# Altium footprint library 705550015.PcbLib: 1 footprints
Each footprint in its own frame and in the unit in brackets; x right, y up, seen from the top. Pads: shape width x height; smd on the part's side, far side on the other; paste and mask are expansions set on the pad; w line width, h text height; cw(c..) or ccw(c..) is an arc to the next point about the centre after c.
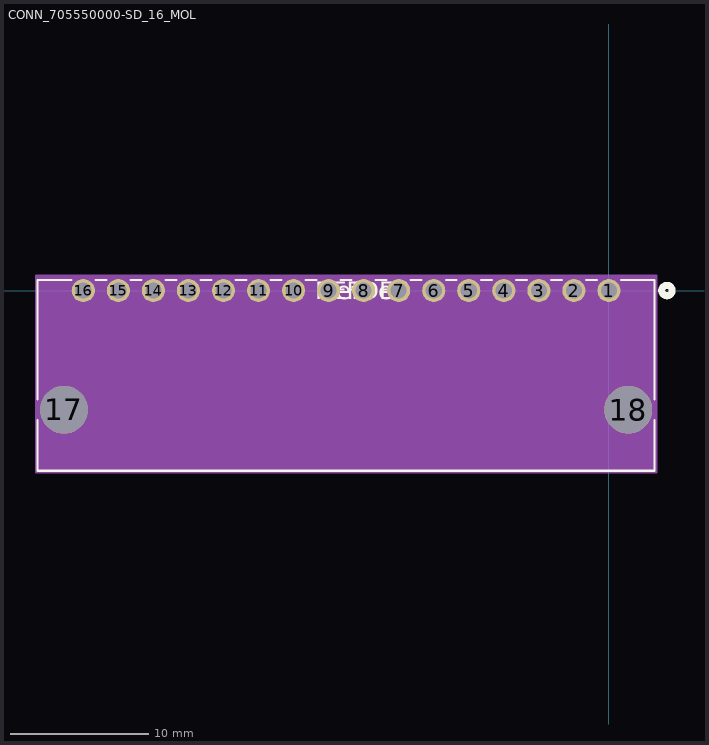
[diagram p0: the footprint, top view; thin cyan lines are the x and y axes]

## CONN_705550000-SD_16_MOL [mil]
pads (18):
  round 66 / inner round 60 / far side round 66 hole 46 paste-33 mask+0: 1(0,0) 2(-100,0) 3(-200,0) 4(-300,0) 5(-400,0) 6(-500,0) 7(-600,0) 8(-700,0) 9(-800,0) 10(-900,0) 11(-1000,0) 12(-1100,0) 13(-1200,0) 14(-1300,0) 15(-1400,0) 16(-1500,0)
  round 136 / inner round 60 / far side round 136 hole 136 unplated paste+0 mask+0: 17(-1555.12,-340.16) 18(55.12,-340.16)
Top Overlay:
  circle w20: c165.5,0 r15
  lines w6: -1630.5,-370.07 -1630.5,-514.41 130.5,-514.41 130.5,-370.07 ; -1630.5,-310.24 -1630.5,30.59 -1534.49,30.59 ; -1465.51,30.59 -1434.49,30.59 ; -1365.51,30.59 -1334.49,30.59 ; -1265.51,30.59 -1234.49,30.59 ; -1165.51,30.59 -1134.49,30.59 ; -1065.51,30.59 -1034.49,30.59 ; -965.51,30.59 -934.49,30.59 ; -865.51,30.59 -834.49,30.59 ; -765.51,30.59 -734.49,30.59 ; -665.51,30.59 -634.49,30.59 ; -565.51,30.59 -534.49,30.59 ; -465.51,30.59 -434.49,30.59 ; -365.51,30.59 -334.49,30.59 ; -265.51,30.59 -234.49,30.59 ; -165.51,30.59 -134.49,30.59 ; -65.51,30.59 -34.49,30.59 ; 34.49,30.59 130.5,30.59 130.5,-310.24
  text "REFDES" at -837.5,-25 h50
  text "RefDes" at -825,-25 h50
Bottom Overlay:
  circle w20: c165.5,0 r15
Mechanical 13:
  circle w20: c0,0 r15
  lines w1: -1625.5,-509.41 -1625.5,25.59 125.5,25.59 125.5,-509.41 -1625.5,-509.41
  text "RefDes2" at -837.5,-25 h50
Mechanical 15:
  region: 135.5,43 -1635.5,43 -1635.5,-519.41 135.5,-519.41
  lines w6: -1635.5,-519.41 135.5,-519.41 135.5,43 -1635.5,43 -1635.5,-519.41